# Altium schematic symbol library IC.SchLib: 11 symbols
Pins are listed as number, name and electrical type; pins without a type are passive.

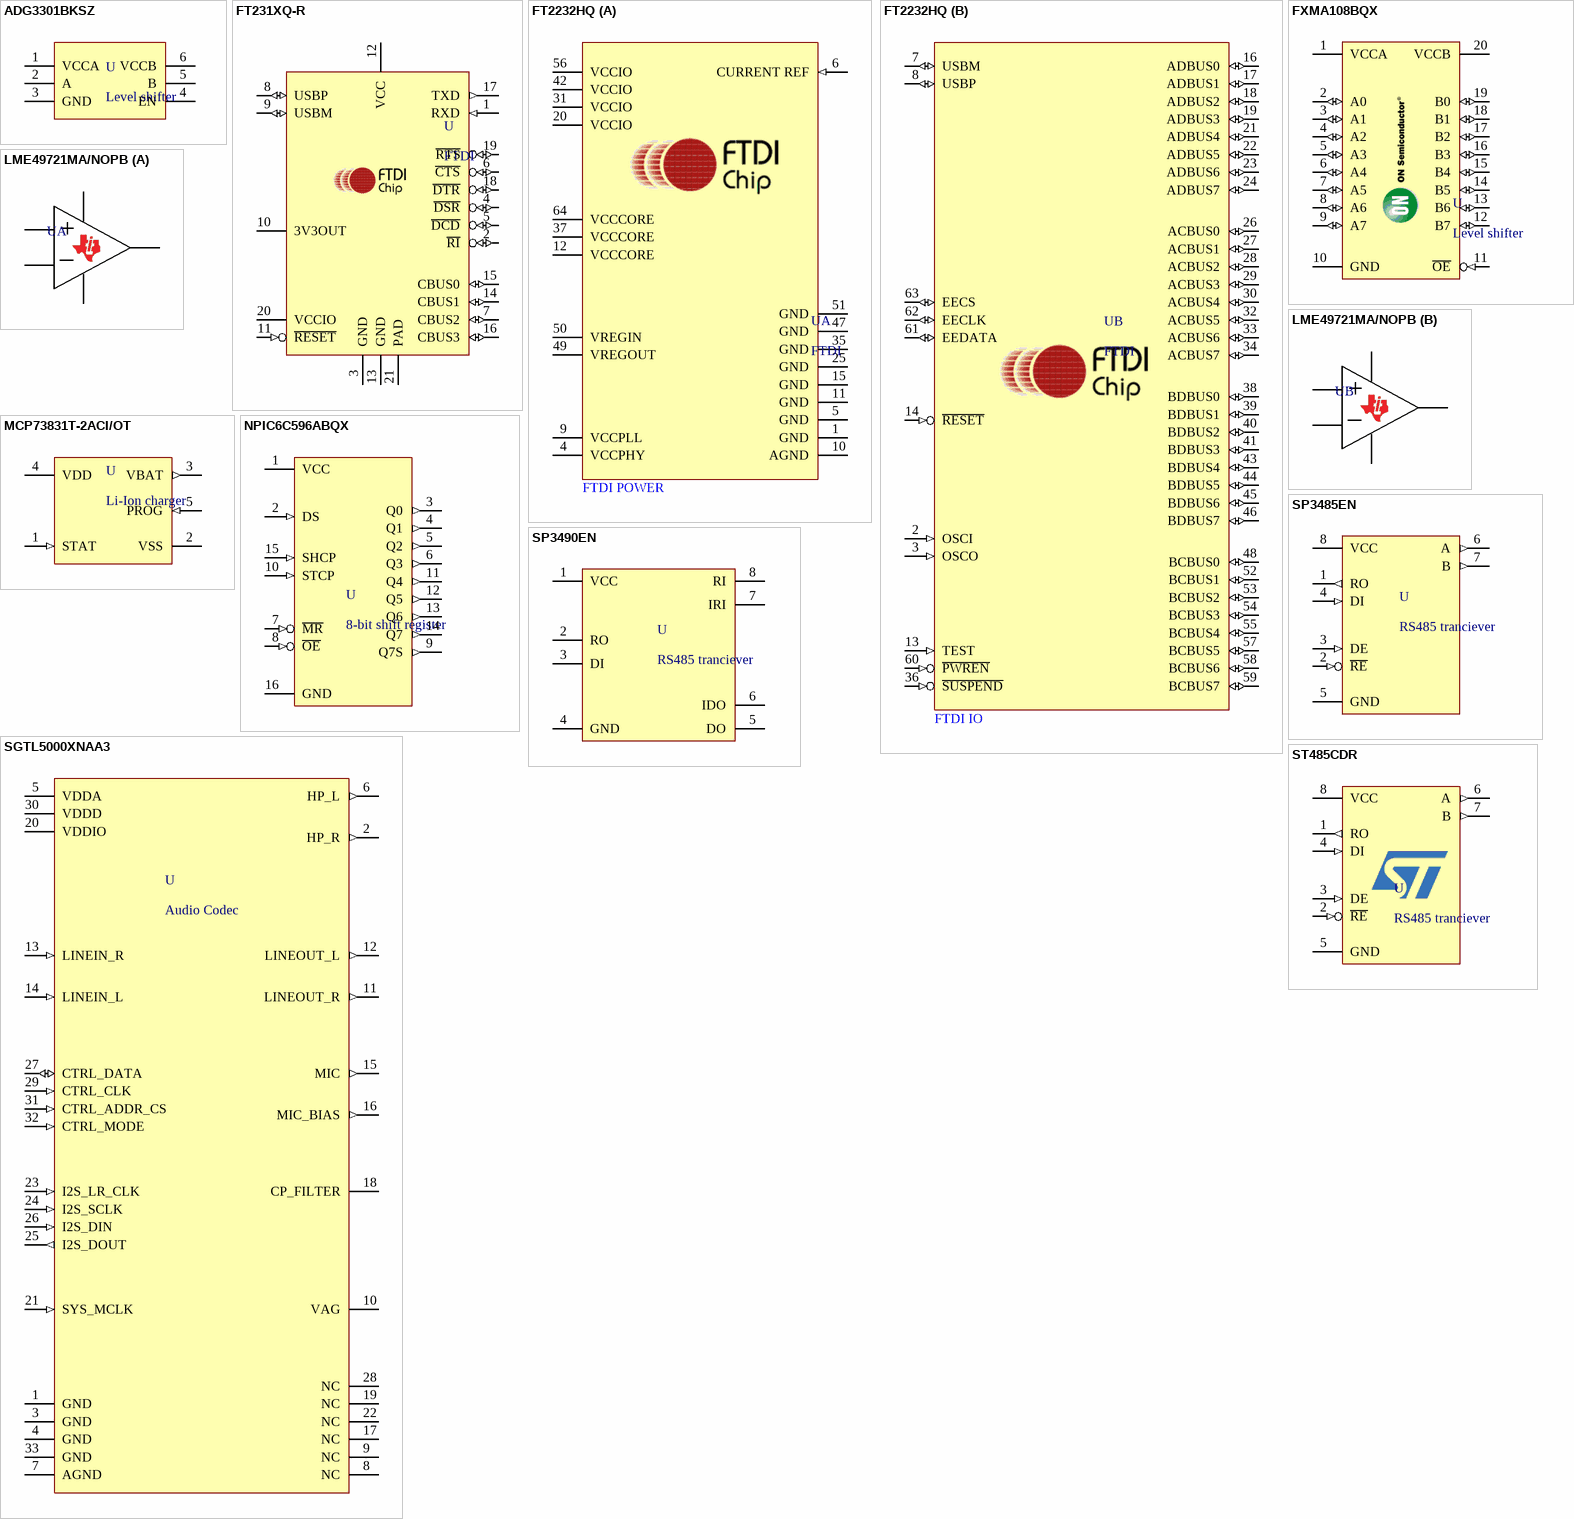
[diagram p0: symbols ADG3301BKSZ to ST485CDR]

## ADG3301BKSZ
designator U, comment Level shifter
Level shifter 1-bit bidirectional
footprint ADG3301BKSZ (SOT23, 6-Leads, Body 2,00x2,10mm, Pitch 0,65mm, IPC Low Density)
pins: 1 VCCA, 2 A, 3 GND, 4 EN, 5 B, 6 VCCB

## FT231XQ-R
designator U, comment FTDI
USB to RS-232 converter; Supplier Part Number 1: 2081330; Supplier 1: Farnell
footprint FT231XQ-R (QFN, 20-Leads, Body 4.00x4.00mm, Pitch 0.50mm, Thermal Pad 1.98x1.98mm, IPC Medium Density)
pins: 1 RXD (in), 2 ~{RI} (io), 3 GND (power), 4 ~{DSR} (io), 5 ~{DCD} (io), 6 ~{CTS} (io), 7 CBUS2 (io), 8 USBP (io), 9 USBM (io), 10 3V3OUT (power), 11 ~{RESET} (in), 12 VCC (power), 13 GND (power), 14 CBUS1 (io), 15 CBUS0 (io), 16 CBUS3 (io), 17 TXD (out), 18 ~{DTR} (io), 19 ~{RTS} (io), 20 VCCIO (power), 21 PAD (power)

## FT2232HQ
designator U, comment FTDI
USB to multipurpose UART / FIFO; Supplier Part Number 1: 768-1346-ND; Supplier 1: Digi-Key
footprint FT2232HQ (QFN, 64-Leads, Body 9.00x9.00mm, Pitch 0.50mm, Thermal Pad 4.35x4.35mm, IPC Medium Density)
part A pins: 1 GND (power), 4 VCCPHY (power), 5 GND (power), 6 CURRENT REF (in), 9 VCCPLL (power), 10 AGND (power), 11 GND (power), 12 VCCCORE (power), 15 GND (power), 20 VCCIO (power), 25 GND (power), 31 VCCIO (power), 35 GND (power), 37 VCCCORE (power), 42 VCCIO (power), 47 GND (power), 49 VREGOUT (power), 50 VREGIN (power), 51 GND (power), 56 VCCIO (power), 64 VCCCORE (power)
part B pins: 2 OSCI (in), 3 OSCO (in), 7 USBM (io), 8 USBP (io), 13 TEST (in), 14 ~{RESET} (in), 16 ADBUS0 (io), 17 ADBUS1 (io), 18 ADBUS2 (io), 19 ADBUS3 (io), 21 ADBUS4 (io), 22 ADBUS5 (io), 23 ADBUS6 (io), 24 ADBUS7 (io), 26 ACBUS0 (io), 27 ACBUS1 (io), 28 ACBUS2 (io), 29 ACBUS3 (io), 30 ACBUS4 (io), 32 ACBUS5 (io), 33 ACBUS6 (io), 34 ACBUS7 (io), 36 ~{SUSPEND} (in), 38 BDBUS0 (io), 39 BDBUS1 (io), 40 BDBUS2 (io), 41 BDBUS3 (io), 43 BDBUS4 (io), 44 BDBUS5 (io), 45 BDBUS6 (io), 46 BDBUS7 (io), 48 BCBUS0 (io), 52 BCBUS1 (io), 53 BCBUS2 (io), 54 BCBUS3 (io), 55 BCBUS4 (io), 57 BCBUS5 (io), 58 BCBUS6 (io), 59 BCBUS7 (io), 60 ~{PWREN} (in), 61 EEDATA (io), 62 EECLK (io), 63 EECS (io)
part A text: FTDI POWER
part B text: FTDI IO

## FXMA108BQX
designator U, comment Level shifter
Level shifter 8-bit bidirectional; Supplier Part Number 1: 2822575; Supplier 1: Farnell
footprint FXMA108BQX (QFN, 20-Leads, Body 2.50x4.50mm, Pitch 0.50mm, Thermal Pad 1.00x2.90mm, IPC Medium Density)
pins: 1 VCCA (power), 2 A0 (io), 3 A1 (io), 4 A2 (io), 5 A3 (io), 6 A4 (io), 7 A5 (io), 8 A6 (io), 9 A7 (io), 10 GND (power), 11 ~{OE} (in), 12 B7 (io), 13 B6 (io), 14 B5 (io), 15 B4 (io), 16 B3 (io), 17 B2 (io), 18 B1 (io), 19 B0 (io), 20 VCCB (power)

## LME49721MA/NOPB
designator U
Opamp single supply low voltage; Supplier Part Number 1: 3004709; Supplier 1: Farnell
footprint LME49721MA/NOPB (SOIC, 8-Leads, Body 4.91x3.90mm, Pitch 1.27mm, IPC Medium Density)
part A pins: 1 VDD, 2 VDD, 3 VDD, 4 VDD, 8 VDD
part B pins: 4 VDD, 5 VDD, 6 VDD, 7 VDD, 8 VDD
part A text: +; _
part B text: +; _

## MCP73831T-2ACI/OT
designator U, comment Li-Ion charger
Li-Ion Charger IC Single cell; Supplier Part Number 1: 1332158RL; Supplier 1: Farnell
footprint MCP73831 (SOT23, 5-Leads, Body 2.90x2.70mm, Pitch 0.95mm, IPC Medium Density)
pins: 1 STAT (in), 2 VSS (power), 3 VBAT (out), 4 VDD (power), 5 PROG (in)

## NPIC6C596ABQX
designator U, comment 8-bit shift register
Shift register 8-bit serial to parallel/serial; Supplier Part Number 1: 2445194; Supplier 1: Farnell
footprint NPIC6C596ABQX (QFN, 16-Leads, Body 2.50x3.50mm, Pitch 0.50mm, Thermal Pad 1.00x2.00mm, IPC Medium Density)
pins: 1 VCC (power), 2 DS (in), 3 Q0 (out), 4 Q1 (out), 5 Q2 (out), 6 Q3 (out), 7 ~{MR} (in), 8 ~{OE} (in), 9 Q7S (out), 10 STCP (in), 11 Q4 (out), 12 Q5 (out), 13 Q6 (out), 14 Q7 (out), 15 SHCP (in), 16 GND (power)

## SGTL5000XNAA3
designator U, comment Audio Codec
Audio codec w/ headophone amp; ADC resolution: 24 bit; Sampling rate: 96 kSPS; Supplier 1: Farnell; Supplier Part Number 1: 2308049
footprint SGTL5000XNAA3 (QFN, 32-Leads, Body 5,00x5,00mm, Pitch 0,50mm, Thermal Pad 3,40x3,40mm, IPC Medium Density)
pins: 1 GND (power), 2 HP_R (out), 3 GND (power), 4 GND (power), 5 VDDA (power), 6 HP_L (out), 7 AGND (power), 8 NC, 9 NC, 10 VAG, 11 LINEOUT_R (out), 12 LINEOUT_L (out), 13 LINEIN_R (in), 14 LINEIN_L (in), 15 MIC (out), 16 MIC_BIAS (out), 17 NC, 18 CP_FILTER, 19 NC, 20 VDDIO (power), 21 SYS_MCLK (in), 22 NC, 23 I2S_LR_CLK (in), 24 I2S_SCLK (in), 25 I2S_DOUT (out), 26 I2S_DIN (in), 27 CTRL_DATA (io), 28 NC, 29 CTRL_CLK (in), 30 VDDD (power), 31 CTRL_ADDR_CS (in), 32 CTRL_MODE (in), 33 GND (power)

## SP3485EN
designator U, comment RS485 tranciever
RS485 tranciever 3V3
footprint SP3485EN (SOIC, 8-Leads, Body 4,90x3,90mm, Pitch 1,27mm, IPC Medium Density)
pins: 1 RO (out), 2 ~{RE} (in), 3 DE (in), 4 DI (in), 5 GND (power), 6 A (out), 7 B (out), 8 VCC (power)

## SP3490EN
designator U, comment RS485 tranciever
RS485 tranciever 3V3
footprint SP3490EN (SOIC, 8-Leads, Body 4,90x3,90mm, Pitch 1,27mm, IPC Medium Density)
pins: 1 VCC, 2 RO, 3 DI, 4 GND, 5 DO, 6 IDO, 7 IRI, 8 RI

## ST485CDR
designator U, comment RS485 tranciever
RS485 tranciever single; Supplier Part Number 1: 1564307; Supplier 1: Farnell
footprint ST485CDR (SOIC, 8-Leads, Body 4.90x3.90mm, Pitch 1.27mm, IPC Medium Density)
pins: 1 RO (out), 2 ~{RE} (in), 3 DE (in), 4 DI (in), 5 GND (power), 6 A (out), 7 B (out), 8 VCC (power)